# EAGLE library part PC1222 (library #Potenciometry)
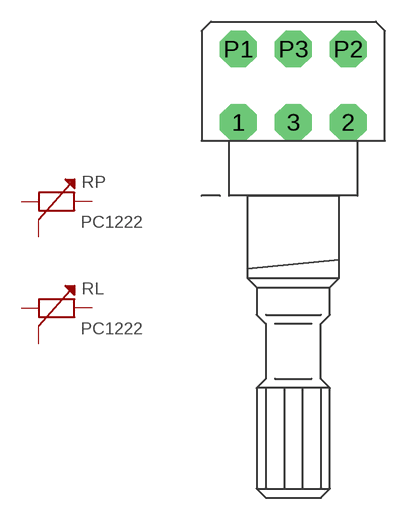
[diagram p0: symbol with the pads of PC1222; footprint PC1222]

Designator prefix R; gates L=TRIMR P=TRIMR

## PC1222  [PC1222]
1  L:1  pas
2  L:3  pas
3  L:2  pas
P1  P:1  pas
P2  P:3  pas
P3  P:2  pas

## Footprint PC1222 (pad centres in mm)
drill 1.2 pad 2.54 octagon: 1 0,0; 2 7.62,0; 3 3.81,0; P1 0,5.08; P2 7.62,5.08; P3 3.81,5.08